# Altium footprint library ADL5565.PcbLib: 1 footprints
Each footprint in its own frame and in the unit in brackets; x right, y up, seen from the top. Pads: shape width x height; smd on the part's side, far side on the other; paste and mask are expansions set on the pad; w line width, h text height; cw(c..) or ccw(c..) is an arc to the next point about the centre after c.
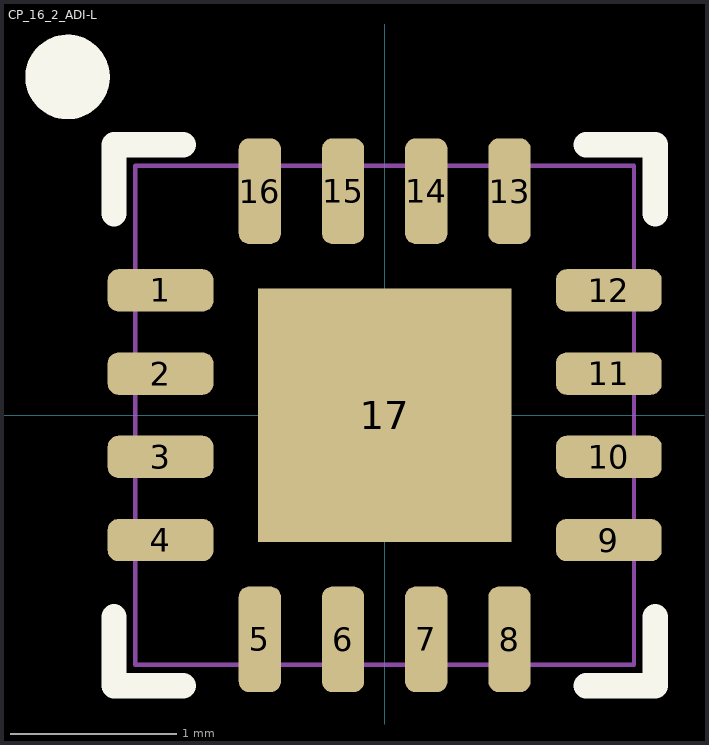
[diagram p0: the footprint, top view; thin cyan lines are the x and y axes]

## CP_16_2_ADI-L [mil]
pads (17):
  rrect50% 25x10 smd paste+0 mask+0: 1(-53,29.53) 2(-53,9.84) 3(-53,-9.84) 4(-53,-29.53) 9(53,-29.53) 10(53,-9.84) 11(53,9.84) 12(53,29.53)
  rrect50% 10x25 smd paste+0 mask+0: 5(-29.53,-53) 6(-9.84,-53) 7(9.84,-53) 8(29.53,-53) 13(29.53,53) 14(9.84,53) 15(-9.84,53) 16(-29.53,53)
  rect 60x60 smd paste+0 mask+0: 17(0,0)
Top Overlay:
  circle w10: c-75,80 r5
  lines w6: -64,-47.63 -64,-64 -47.63,-64 ; -64,47.63 -64,64 -47.63,64 ; 47.63,-64 64,-64 64,-47.63 ; 47.63,64 64,64 64,47.63
Mechanical 13:
  lines w1: -59,-59 -59,59 59,59 59,-59 -59,-59 ; -59,-35.53 -59,-23.53 -59,-35.53 ; -59,-15.84 -59,-3.84 -59,-15.84 ; -59,3.84 -59,15.84 -59,3.84 ; -59,23.53 -59,35.53 -59,23.53 ; -35.53,-59 -23.53,-59 -35.53,-59 ; -35.53,59 -23.53,59 -35.53,59 ; -15.84,-59 -3.84,-59 -15.84,-59 ; -15.84,59 -3.84,59 -15.84,59 ; 3.84,-59 15.84,-59 3.84,-59 ; 3.84,59 15.84,59 3.84,59 ; 23.53,-59 35.53,-59 23.53,-59 ; 23.53,59 35.53,59 23.53,59 ; 59,-35.53 59,-23.53 59,-35.53 ; 59,-15.84 59,-3.84 59,-15.84 ; 59,3.84 59,15.84 59,3.84 ; 59,23.53 59,35.53 59,23.53
3D body "CP_16_2_ADI.step": height 39.09, standoff 0, extent -59.02,-59.02 59.02,59.02